# EAGLE library part TNY27X-P (library tny26x_27x)
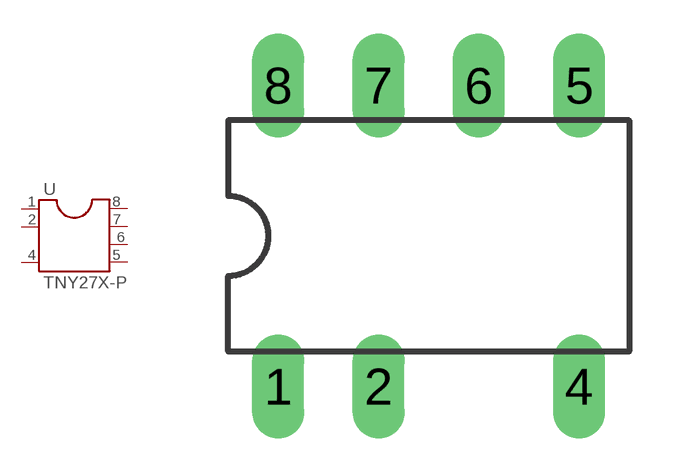
[diagram p2: symbol with the pads of DIP-8C; footprint DIP-8C]

Designator prefix -

## TNY27X-P  [DIP-8C]
1  EN/UV  pas
2  BP  pas
4  D  pas
5  5GND  pas
6  6GND  pas
7  7HV-GND  pas
8  8HV-GND  pas

## Footprint DIP-8C (pad centres in mm)
drill 0.813 long: 1 -3.81,-3.81; 2 -1.27,-3.81; 4 3.81,-3.81; 5 3.81,3.81; 6 1.27,3.81; 7 -1.27,3.81; 8 -3.81,3.81